# Altium schematic symbol library SCH - MISC - LEM_SENSOR_CKSR.SCHLIB: 1 symbol
Pins are listed as number, name and electrical type; pins without a type are passive.

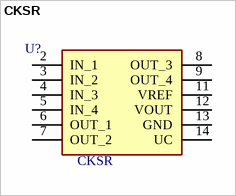
[diagram p0: symbol CKSR]

## CKSR
designator U?
Current Sensor; Manufacturer: LEM; Datasheet Link: https://www.lem.com/sites/default/files/products_datasheets/cksr_series.pdf; Height: 16mm; Mounting Technology: THT
footprint CKSR25NP
pins: 2 IN_1, 3 IN_2, 4 IN_3, 5 IN_4, 6 OUT_1, 7 OUT_2, 8 OUT_3, 9 OUT_4, 11 VREF, 12 VOUT, 13 GND, 14 UC